# Altium footprint library SBTech_IcarusBoard_1V0.PcbLib: 30 footprints (part 2 of 2)
Each footprint in its own frame and in the unit in brackets; x right, y up, seen from the top. Pads: shape width x height; smd on the part's side, far side on the other; paste and mask are expansions set on the pad; w line width, h text height; cw(c..) or ccw(c..) is an arc to the next point about the centre after c.
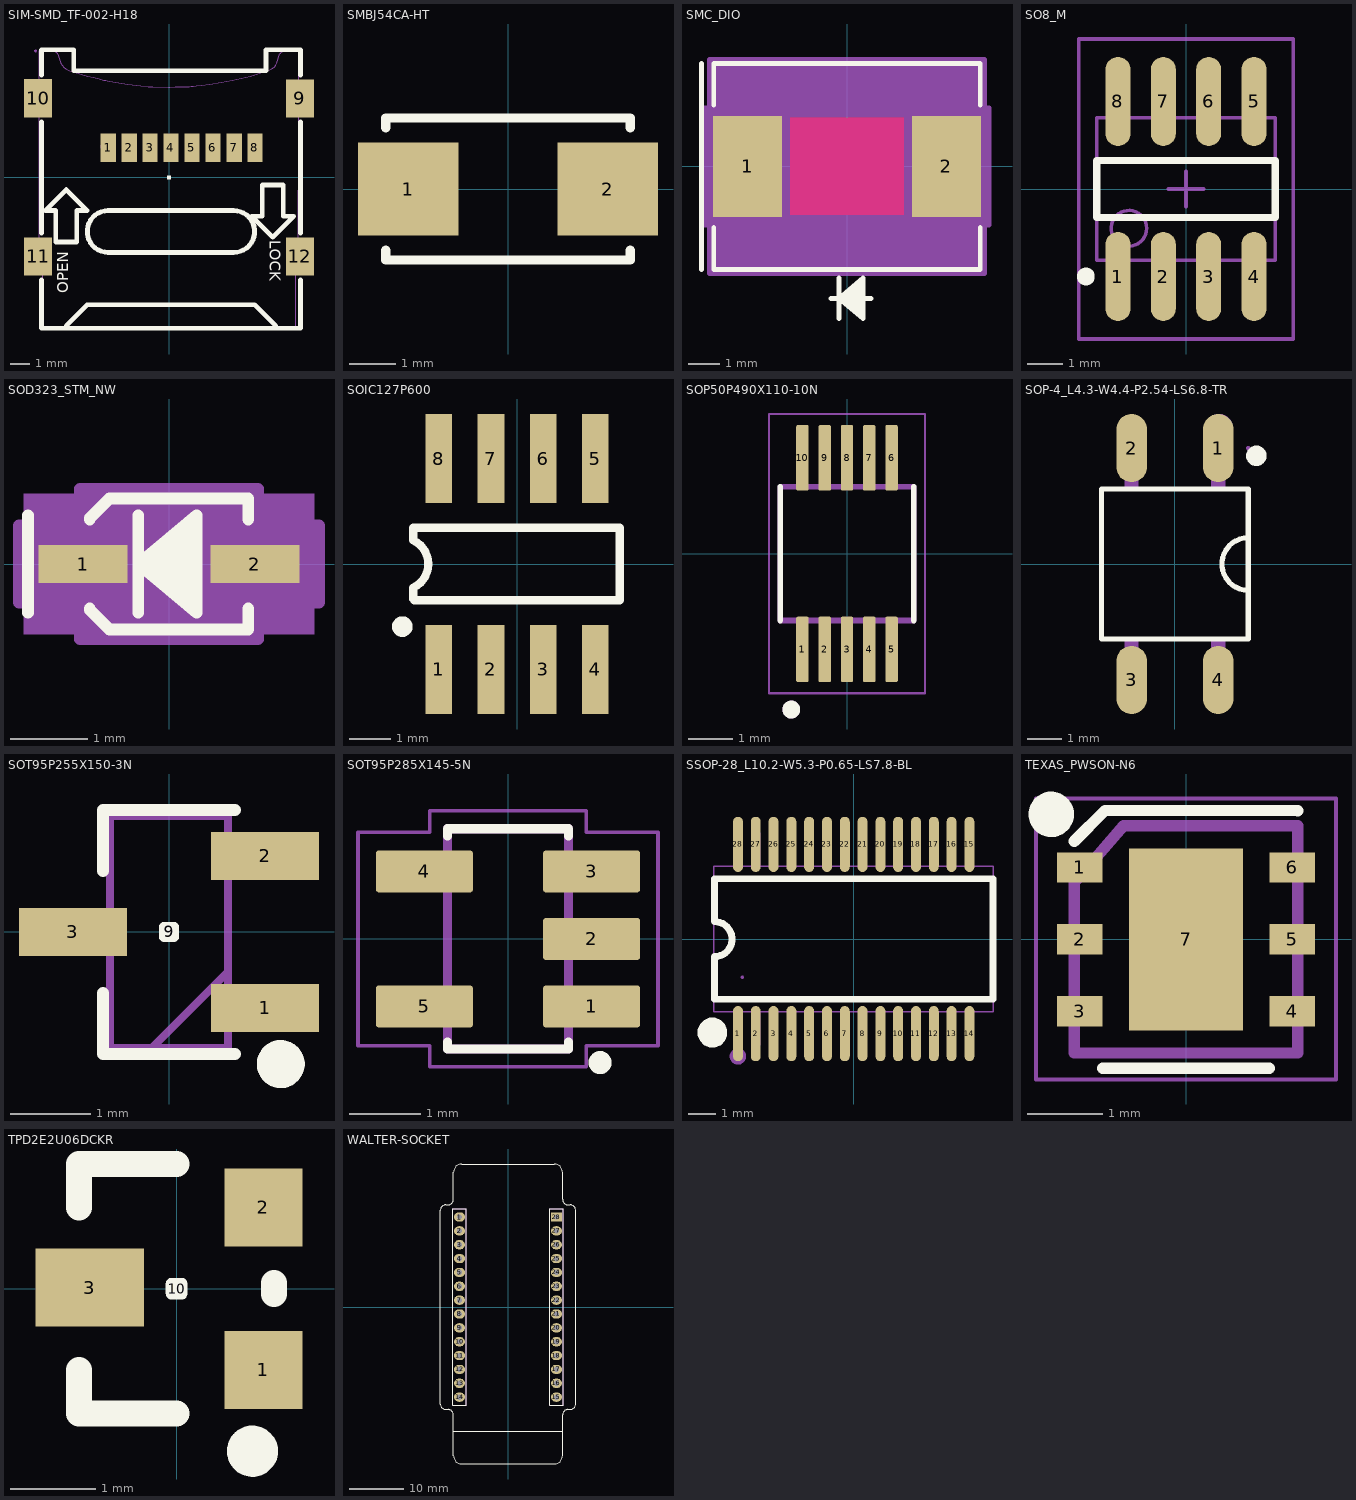
[diagram p1: the footprints below, top view; thin cyan lines are the x and y axes]

## SIM-SMD_TF-002-H18 [mm]
height 1.8
pads (13):
  rect 0.8x1.5 smd: 1(-3.194,1.554) 2(-2.094,1.554) 3(-0.993,1.554) 4(0.105,1.554) 5(1.208,1.554) 6(2.311,1.554) 7(3.431,1.546) 8(4.514,1.554)
  rect 1.45x2 smd: 9(6.88,4.146) 10(-6.88,4.154) 11(-6.88,-4.154) 12(6.88,-4.154)
  rect 0.2x0.2 on Top Overlay: C(0,0)
Top Overlay:
  lines w0.254: -6.699,-5.385 -6.699,-7.926 6.901,-7.926 6.901,-5.385 ; -6.699,-2.923 -6.699,2.923 ; -6.699,5.385 -6.699,6.7 -5,6.7 -5,5.6 5.1,5.6 5.1,6.7 6.9,6.7 6.9,5.377 ; -5.399,-7.926 -5.399,-7.796 -4.299,-6.696 4.501,-6.696 5.601,-7.796 5.601,-7.926 ; 6.901,-2.923 6.901,2.915 ; 5.449,-3.145 5.999,-2.595 6.549,-2.045 5.999,-2.045 5.999,-0.395 4.899,-0.395 4.899,-2.045 4.349,-2.045 4.899,-2.595 5.449,-3.145 ; 5.449,-3.145 5.449,-3.145 ; -6.499,-1.746 -5.949,-1.746 -5.949,-3.396 -4.849,-3.396 -4.849,-1.746 -4.299,-1.746 -4.849,-1.196 -5.399,-0.646 -5.399,-0.646 -5.949,-1.196 -6.499,-1.746 ; -3.199,-3.946 cw(c-3.194,-2.846) -3.199,-1.746 3.401,-1.746 cw(c3.401,-2.846) 3.401,-3.946 -3.199,-3.946
  text "OPEN" at -5.08,-6.096 h1
  text "LOCK" at 5.08,-3.302 h1
Mechanical 6:
  circle w0.4: c-3.189,1.612 r0.2
Mechanical 15:
  region: -7,3.529 -7,4.779 -6.68,4.779 -6.68,3.529
  region: 6.68,3.521 6.68,4.771 7,4.771 7,3.521
  region: -7,-4.779 -7,-3.529 -6.68,-3.529 -6.68,-4.779
  region: 6.68,-4.779 6.68,-3.529 7,-3.529 7,-4.779
  region: -3.344,0.954 -3.344,2.154 -3.044,2.154 -3.044,0.954
  region: -2.244,0.954 -2.244,2.154 -1.944,2.154 -1.944,0.954
  region: -1.143,0.954 -1.143,2.154 -0.843,2.154 -0.843,0.954
  region: -0.045,0.954 -0.045,2.154 0.255,2.154 0.255,0.954
  region: 1.058,0.954 1.058,2.154 1.358,2.154 1.358,0.954
  region: 2.16,0.954 2.16,2.154 2.461,2.154 2.461,0.954
  region: 3.281,0.946 3.281,2.146 3.581,2.146 3.581,0.946
  region: 4.364,0.954 4.364,2.154 4.664,2.154 4.664,0.954
  region: -6.95,6.642 -6.95,6.667 -6.985,6.702 -7.034,6.702 -7.07,6.667 -7.07,6.642 -7.07,6.617 -7.034,6.582 -6.985,6.582 -6.949,6.617
  lines w0.051: -7.01,-3.573 -7.002,-4.839 -6.667,-4.844 -6.659,-7.86 6.64,-7.86 6.639,-4.836 6.982,-4.842 6.988,-3.585 6.79,-3.581 6.791,-0.674 6.78,6.641 6.07,6.64 6,6.63 5.95,6.61 5.9,6.58 5.86,6.53 5.831,6.482 5.66,6 5.601,5.892 5.548,5.818 5.52,5.78 5.41,5.7 5.29,5.64 4.831,5.497 4.272,5.324 3.32,5.095 2.745,4.987 2.15,4.88 1.704,4.835 1.432,4.807 1.277,4.791 1.181,4.782 1.07,4.77 0.81,4.763 0.318,4.75 0.043,4.742 -0.006,4.74 -0.846,4.763 -0.908,4.765 -0.971,4.767 -1.091,4.77 -1.488,4.81 -2.172,4.887 -2.794,4.991 -3.125,5.053 -3.249,5.075 -3.335,5.095 -3.416,5.114 -3.672,5.175 -3.992,5.252 -4.276,5.319 -4.685,5.446 -5.219,5.612 -5.309,5.64 -5.421,5.696 -5.539,5.779 -5.62,5.889 -5.68,6 -5.848,6.48 -5.877,6.529 -5.918,6.58 -5.97,6.609 -6.018,6.628 -6.085,6.641 -6.808,6.642 -6.81,-0.623 -6.81,-3.578 -7.01,-3.573

## SMBJ54CA-HT [mm]
height 3
pads (2):
  rect 2.17x2 smd: 1(-2.155,0) 2(2.155,0)
Top Overlay:
  lines w0.2: -2.64,-1.325 -2.64,-1.532 2.64,-1.532 2.64,-1.325 ; -2.64,1.325 -2.64,1.532 2.64,1.532 2.64,1.325
3D body "SMBJ58A.STEP": height 2.6, standoff -0.01, extent -2.705,-1.785 2.695,1.835

## SMC_DIO [mm]
pads (2):
  rect 2.18x3.18 smd paste+0 mask+0: 1(-3.127,0) 2(3.127,0)
Top Layer:
  region: -1.778,-1.524 -1.778,1.524 1.778,1.524 1.778,-1.524
Top Overlay:
  lines w0.15: -4.572,-3.237 -4.572,3.237
  lines w0.152: -4.192,-1.923 -4.192,-3.237 4.192,-3.237 4.192,-1.923 ; -4.192,1.923 -4.192,3.237 4.192,3.237 4.192,1.923 ; -0.509,-4.148 0.761,-4.148 ; -0.255,-4.783 -0.255,-3.513 ; 0.507,-4.656 -0.255,-4.148 ; 0.507,-4.529 -0.255,-4.148 ; 0.507,-4.402 -0.255,-4.148 ; 0.507,-4.275 -0.255,-4.148 ; 0.507,-4.021 -0.255,-4.148 ; 0.507,-3.894 -0.255,-4.148 ; 0.507,-3.767 -0.255,-4.148 ; 0.507,-3.64 -0.255,-4.148 ; -0.255,-4.148 0.507,-4.783 0.507,-3.513 -0.255,-4.148
Keep-Out Layer:
  region: -1.778,-1.524 -1.778,1.524 1.778,1.524 1.778,-1.524
Mechanical 13:
  lines w0.025: -0.509,-4.148 0.761,-4.148 ; -0.255,-4.783 -0.255,-3.513 ; 0.507,-4.656 -0.255,-4.148 ; 0.507,-4.529 -0.255,-4.148 ; 0.507,-4.402 -0.255,-4.148 ; 0.507,-4.275 -0.255,-4.148 ; 0.507,-4.021 -0.255,-4.148 ; 0.507,-3.894 -0.255,-4.148 ; 0.507,-3.767 -0.255,-4.148 ; 0.507,-3.64 -0.255,-4.148 ; -0.255,-4.148 0.507,-4.783 0.507,-3.513 -0.255,-4.148 ; -4.065,-3.11 -4.065,3.11 4.065,3.11 4.065,-3.11 -4.065,-3.11
Mechanical 15:
  region: -4.319,-1.844 -4.471,-1.844 -4.471,1.844 -4.319,1.844 -4.319,3.364 4.319,3.364 4.319,1.844 4.471,1.844 4.471,-1.844 4.319,-1.844 4.319,-3.364 -4.319,-3.364
  lines w0.152: -4.471,-1.844 -4.319,-1.844 -4.319,-3.364 4.319,-3.364 4.319,-1.844 4.471,-1.844 4.471,1.844 4.319,1.844 4.319,3.364 -4.319,3.364 -4.319,1.844 -4.471,1.844 -4.471,-1.844
3D body "SMC_DIO.step": height 2.45, standoff 0, extent -4.065,-3.11 4.065,3.11
3D body "SMC_DIO.step": height 2.45, standoff 0, extent -4.065,-3.11 4.065,3.11

## SO8_M [mm] "SOIC, 8-Leads, Body 4.9x3.9mm, Pitch 1.27mm, IPC Low Density"
height 1.75
pads (8):
  oval 0.7x2.5 smd: 1(-1.905,-2.45) 2(-0.635,-2.45) 3(0.635,-2.45) 4(1.905,-2.45) 5(1.905,2.45) 6(0.635,2.45) 7(-0.635,2.45) 8(-1.905,2.45)
Top Overlay:
  circle w0.25: c-2.805,-2.45 r0.125
  lines w0.2: -2.5,-0.8 -2.5,0.8 2.5,0.8 2.5,-0.8 -2.5,-0.8
Mechanical 13:
  circle w0.1: c-1.6,-1.1 r0.5
  lines w0.1: -2.5,-2 -2.5,2 2.5,2 2.5,-2 -2.5,-2
Mechanical 15:
  lines w0.1: -0.5,0 0.5,0 ; 0,-0.5 0,0.5 ; -3,-4.2 -3,4.2 3,4.2 3,-4.2 -3,-4.2
3D body: height 1.75, standoff 0, extent -2.5,-2 2.5,2

## SOD323_STM_NW [mil]
height 118.11
pads (2):
  rect 45.56x19.36 smd paste+0 mask+0: 1(-44,0) 2(44,0)
Top Overlay:
  lines w5.91: -15,0 14,0
  lines w6: -72.22,-25 -72.22,25 ; -40.5,-22.78 -40.5,-23.5 -30.5,-33.5 40.5,-33.5 40.5,-22.78 ; -40.5,22.78 -40.5,23.5 -30.5,33.5 40.5,33.5 40.5,22.78 ; -15.78,-25 -15.78,25 ; 14.22,-20 -15.78,0 ; 14.22,-15 -15.78,0 ; 14.22,-10 -15.78,0 ; 14.22,-5 -15.78,0 ; 14.22,5 -15.78,0 ; 14.22,10 -15.78,0 ; 14.22,15 -15.78,0 ; 14.22,20 -15.78,0 ; -15.78,0 14.22,25 14.22,-25 -15.78,0
Mechanical 5:
  region: 74.28,-36 -74.28,-36 -74.28,36 74.28,36
Mechanical 13:
  lines w1: -35.5,-14.25 -21.25,-28.5 ; -35.5,14.25 -21.25,28.5 ; -15.78,-25 -15.78,25 ; 14.22,-20 -15.78,0 ; 14.22,-15 -15.78,0 ; 14.22,-10 -15.78,0 ; 14.22,-5 -15.78,0 ; 14.22,5 -15.78,0 ; 14.22,10 -15.78,0 ; 14.22,15 -15.78,0 ; 14.22,20 -15.78,0 ; -15.78,0 14.22,25 14.22,-25 -15.78,0 ; -53,-8.5 -35.5,-8.5 -35.5,8.5 -53,8.5 -53,-8.5 ; -35.5,-28.5 -35.5,28.5 35.5,28.5 35.5,-28.5 -35.5,-28.5 ; 35.5,-8.5 53,-8.5 53,8.5 35.5,8.5 35.5,-8.5
Mechanical 15:
  region: -45.5,-19.68 -76.78,-19.68 -76.78,19.68 -45.5,19.68 -45.5,38.5 45.5,38.5 45.5,19.68 76.78,19.68 76.78,-19.68 45.5,-19.68 45.5,-38.5 -45.5,-38.5
  lines w6: -76.78,-19.68 -45.5,-19.68 -45.5,-38.5 45.5,-38.5 45.5,-19.68 76.78,-19.68 76.78,19.68 45.5,19.68 45.5,38.5 -45.5,38.5 -45.5,19.68 -76.78,19.68 -76.78,-19.68
3D body "SOD323_STM.step": height 46.1, standoff 0, extent -52.99,-28.5 52.99,28.5

## SOIC127P600 [mm]
height 3
pads (8):
  rect 0.65x2.17 smd: 1(-1.905,-2.565) 2(-0.635,-2.565) 3(0.635,-2.565) 4(1.905,-2.565) 5(1.905,2.565) 6(0.635,2.565) 7(-0.635,2.565) 8(-1.905,2.565)
Top Overlay:
  circle w0.25: c-2.792,-1.524 r0.125
  lines w0.2: -2.527,-0.853 -2.527,-0.576 ccw(c-2.794,0) -2.527,0.576 -2.527,0.88 ; -2.5,-0.88 2.5,-0.88 2.5,0.88 -2.5,0.88
3D body "MCP79411T-I_SN.STEP": height 1.75, standoff 0, extent -2.43,-3.015 2.47,2.985

## SOP50P490X110-10N [mm]
height 3
pads (10):
  rrect25% 0.28x1.47 smd: 1(-1,-2.15) 2(-0.5,-2.15) 3(0,-2.15) 4(0.5,-2.15) 5(1,-2.15) 6(1,2.15) 7(0.5,2.15) 8(0,2.15) 9(-0.5,2.15) 10(-1,2.15)
Top Overlay:
  circle w0.2: c-1.25,-3.5 r0.1
  lines w0.127: -1.5,-1.5 -1.5,1.5 ; 1.5,-1.5 1.5,1.5
Mechanical 13:
  circle w0.2: c-1.25,-3.5 r0.1
  lines w0.127: -1.5,-1.5 -1.5,1.5 1.5,1.5 1.5,-1.5 -1.5,-1.5
Mechanical 15:
  lines w0.05: -1.75,-3.135 -1.75,3.135 1.75,3.135 1.75,-3.135 -1.75,-3.135
3D body "ADS1015IDGSR.step": height 1.1, standoff 0, extent -1.5,-2.45 1.5,2.45

## SOP-4_L4.3-W4.4-P2.54-LS6.8-TR [mm]
pads (4):
  oval 0.9x2 smd: 1(1.27,3.4) 2(-1.27,3.4) 3(-1.27,-3.4) 4(1.27,-3.4)
Top Overlay:
  lines w0.152: 2.15,0.771 ccw(c2.15,0) 2.151,-0.771 ; -2.15,-2.2 2.15,-2.2 2.15,2.2 -2.15,2.2 -2.15,-2.2
  lines w0.3: 2.54,3.172 cw(c2.39,3.173) 2.24,3.173 cw(c2.39,3.173) 2.54,3.175
Mechanical 6:
  circle w0.4: c1.3,4 r0.2
Mechanical 15:
  region: 2.21,3.4 2.21,3.425 2.175,3.46 2.125,3.46 2.09,3.425 2.09,3.4 2.09,3.375 2.125,3.34 2.175,3.34 2.21,3.375
  region: 1.07,-2.95 1.07,-2.19 1.47,-2.19 1.47,-2.95
  region: 1.07,-3.4 1.07,-2.94 1.47,-2.94 1.47,-3.4
  region: -1.47,-2.95 -1.47,-2.19 -1.07,-2.19 -1.07,-2.95
  region: -1.47,-3.4 -1.47,-2.94 -1.07,-2.94 -1.07,-3.4
  region: -1.47,2.19 -1.47,2.95 -1.07,2.95 -1.07,2.19
  region: -1.47,2.94 -1.47,3.4 -1.07,3.4 -1.07,2.94
  region: 1.07,2.19 1.07,2.95 1.47,2.95 1.47,2.19
  region: 1.07,2.94 1.07,3.4 1.47,3.4 1.47,2.94
  lines w0.051: -2.15,-2.2 -2.15,2.2 2.15,2.2 2.15,-2.2 -2.15,-2.2

## SOT95P255X150-3N [mm]
pads (4):
  rect 1.35x0.6 smd mask+0: 1(1.2,-0.95) 2(1.2,0.95) 3(-1.2,0)
  rrect50% 0.254x0.254 on Top Overlay: 9(0,0)
Top Overlay:
  circle w0.3: c1.397,-1.651 r0.15
  lines w0.15: -0.825,-0.763 -0.825,-1.525 0.825,-1.525 ; -0.825,0.763 -0.825,1.525 0.825,1.525
Mechanical 10:
  lines w0.1: -0.212,-1.448 0.738,-0.498 ; -0.738,-1.448 -0.738,1.448 0.738,1.448 0.738,-1.448 -0.738,-1.448

## SOT95P285X145-5N [mm]
pads (5):
  rrect15% 1.37x0.59 smd: 1(1.175,-0.95) 2(1.175,0) 3(1.175,0.95) 4(-1.175,0.95) 5(-1.175,-0.95)
Top Overlay:
  circle w0.2: c1.295,-1.74 r0.062
  lines w0.127: -0.85,-1.45 -0.85,-1.55 0.85,-1.55 0.85,-1.45 ; -0.85,1.45 -0.85,1.55 0.85,1.55 0.85,1.45
Mechanical 13:
  lines w0.127: -0.85,-1.55 -0.85,1.55 0.85,1.55 0.85,-1.55 -0.85,-1.55
Mechanical 15:
  lines w0.05: -2.11,-1.5 -1.1,-1.5 -1.1,-1.8 1.1,-1.8 1.1,-1.5 2.11,-1.5 2.11,1.5 1.1,1.5 1.1,1.8 -1.1,1.8 -1.1,1.5 -2.11,1.5 -2.11,-1.5
3D body "AP22802AW5-7.STEP": height 1.4, standoff 0, extent -1.4,-1.5 1.4,1.5

## SSOP-28_L10.2-W5.3-P0.65-LS7.8-BL [mm]
pads (28):
  oval 0.364x2.015 smd: 1(-4.225,-3.455) 2(-3.575,-3.455) 3(-2.925,-3.455) 4(-2.275,-3.455) 5(-1.625,-3.455) 6(-0.975,-3.455) 7(-0.325,-3.455) 8(0.325,-3.455) 9(0.975,-3.455) 10(1.625,-3.455) 11(2.275,-3.455) 12(2.925,-3.455) 13(3.575,-3.455) 14(4.225,-3.455) 15(4.225,3.455) 16(3.575,3.455) 17(2.925,3.455) 18(2.275,3.455) 19(1.625,3.455) 20(0.975,3.455) 21(0.325,3.455) 22(-0.325,3.455) 23(-0.975,3.455) 24(-1.625,3.455) 25(-2.275,3.455) 26(-2.925,3.455) 27(-3.575,3.455) 28(-4.225,3.455)
Top Overlay:
  region: -5.688,-3.418 -5.689,-3.312 -5.609,-3.115 -5.459,-2.965 -5.263,-2.883 -5.051,-2.883 -4.855,-2.965 -4.706,-3.115 -4.625,-3.312 -4.626,-3.418 -4.625,-3.524 -4.706,-3.72 -4.855,-3.871 -5.051,-3.952 -5.263,-3.952 -5.459,-3.871 -5.609,-3.72 -5.689,-3.524
  lines w0.254: 5.08,-2.2 -5.08,-2.2 -5.08,-0.644 ccw(c-5.08,-0.004) -5.08,0.635 -5.08,2.2 5.08,2.2 5.08,-2.159
Mechanical 6:
  circle w0.3: c-4.225,-4.285 r0.15
Mechanical 15:
  drawing of 61 lines, arcs and shapes, not listed

## TEXAS_PWSON-N6 [mm]
pads (7):
  rect 0.6x0.4 smd mask+0: 1(-1.4,0.95) 2(-1.4,0) 3(-1.4,-0.95) 4(1.4,-0.95) 5(1.4,0) 6(1.4,0.95)
  rect 1.5x2.4 smd mask+0: 7(0,0)
Top Overlay:
  circle w0.3: c-1.778,1.651 r0.15
  lines w0.15: -1.475,1.295 -1.069,1.702 -0.762,1.702 1.475,1.7 ; -1.1,-1.7 1.1,-1.7
Mechanical 10:
  lines w0.15: -1.475,-1.5 -1.475,0.75 -0.825,1.5 1.475,1.5 1.475,-1.5 -1.475,-1.5
Mechanical 12:
  lines w0.05: -1.98,1.85 -1.98,-1.85 1.98,-1.85 1.98,1.85 ; -1.98,1.86 1.98,1.86

## TPD2E2U06DCKR [mil]
height 118.11
pads (4):
  rect 36x36 smd: 1(40,-37.5) 2(40,37.5)
  rect 50x36 smd: 3(-40,0.5)
  rrect50% 10x10 on Top Overlay: 10(0,0)
Top Overlay:
  circle w11.81: c35,-75 r5.91
  lines w12: -45,-37.5 -45,-57.5 0,-57.5 ; -45,37.5 -45,57.5 0,57.5 ; 45,-2.5 45,2.5
3D body "IRLML6401TRPBF.STEP": height 44.09, standoff 0, extent -44.8,-57.6 54.02,57.37

## WALTER-SOCKET [mm]
pads (28):
  oval 2x1.7 hole 1 paste-2539.97 mask+0: 1(-8.89,16.51) 2(-8.89,13.97) 3(-8.89,11.43) 4(-8.89,8.89) 5(-8.89,6.35) 6(-8.89,3.81) 7(-8.89,1.27) 8(-8.89,-1.27) 9(-8.89,-3.81) 10(-8.89,-6.35) 11(-8.89,-8.89) 12(-8.89,-11.43) 13(-8.89,-13.97) 14(-8.89,-16.51) 15(8.89,-16.51) 16(8.89,-13.97) 17(8.89,-11.43) 18(8.89,-8.89) 19(8.89,-6.35) 20(8.89,-3.81) 21(8.89,-1.27) 22(8.89,1.27) 23(8.89,3.81) 24(8.89,6.35) 25(8.89,8.89) 26(8.89,11.43) 27(8.89,13.97)
  rect 2x1.7 hole 1 paste-2539.97 mask+0: 28(8.89,16.51)
Top Overlay:
  lines w0.15: -10,-22.733 10,-22.733 ; -12.4,-17.77 ccw(c-11.4,-17.77) -11.4,-18.77 -11,-18.77 cw(c-11,-19.77) -10,-19.77 -10,-27.27 ccw(c-8.5,-27.27) -8.5,-28.77 8.5,-28.77 ccw(c8.5,-27.27) 10,-27.27 10,-19.77 cw(c11,-19.77) 11,-18.77 11.4,-18.77 ccw(c11.4,-17.77) 12.4,-17.77 12.4,17.73 ccw(c11.4,17.73) 11.4,18.73 11,18.73 cw(c11,19.73) 10,19.73 10,24.73 ccw(c8.5,24.73) 8.5,26.23 -8.5,26.23 ccw(c-8.5,24.73) -10,24.73 -10,19.73 cw(c-11,19.73) -11,18.73 -11.4,18.73 ccw(c-11.4,17.73) -12.4,17.73 -12.4,-17.77
  lines w0.2: -10.16,-18.034 -10.16,18.034 -7.62,18.034 -7.62,-18.034 -10.16,-18.034 ; 7.62,-18.034 10.16,-18.034 10.16,18.034 7.62,18.034 7.62,-18.034
Mechanical 13:
  lines w0.12: -10.16,-18.03 -10.16,18.03 -7.62,18.03 -7.62,-18.03 -10.16,-18.03 ; 7.62,-18.03 7.62,18.03 10.16,18.03 10.16,-18.03 7.62,-18.03
  text "Antenna Area" at 4.572,-22.987 h1.52